# EAGLE library part ULCD-144 (library LITTLEBITS140826)
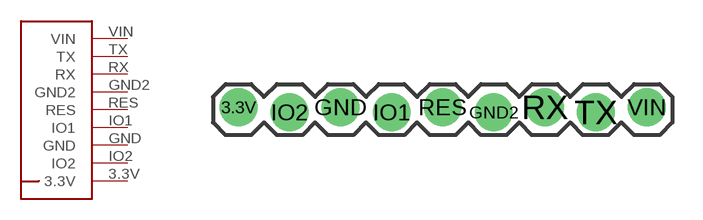
[diagram p9: symbol with the pads of ULCD-144; footprint ULCD-144]

Designator prefix -

## ULCD-144  [ULCD-144]
3.3V  3.3V
GND  GND
GND2  GND2
IO1  IO1
IO2  IO2
RES  RES
RX  RX
TX  TX
VIN  VIN

## Footprint ULCD-144 (pad centres in mm)
drill 1.016 pad 1.88: 3.3V 1.27,1.397; GND 6.35,1.397; GND2 13.97,1.143; IO1 8.89,1.143; IO2 3.81,1.143; RES 11.43,1.397; RX 16.51,1.397; TX 19.05,1.143; VIN 21.59,1.397